# EAGLE library part LAIRDTECH_BTM411 (library LairdTechnologies)
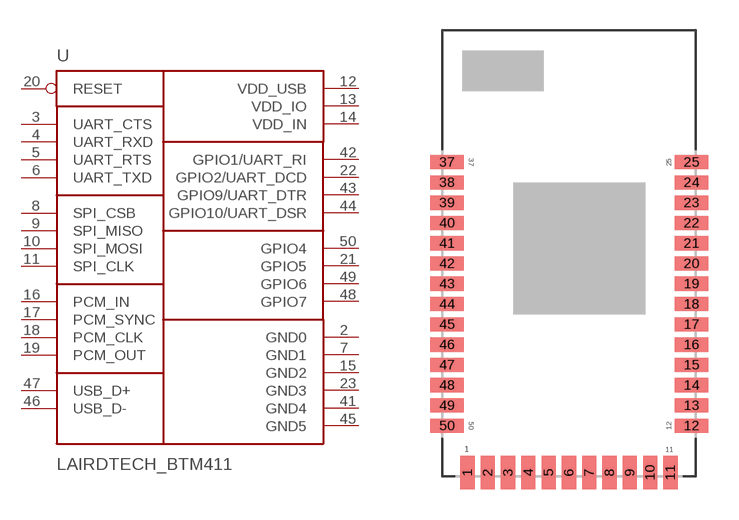
[diagram p0: symbol with the pads of LAIRDTECH_BTM411; footprint LAIRDTECH_BTM411]

Designator prefix -

## LAIRDTECH_BTM411  [LAIRDTECH_BTM411]
2  GND0
3  UART_CTS
4  UART_RXD
5  UART_RTS
6  UART_TXD
7  GND1
8  SPI_CSB
9  SPI_MISO
10  SPI_MOSI
11  SPI_CLK
12  VDD_USB
13  VDD_IO
14  VDD_IN
15  GND2
16  PCM_IN
17  PCM_SYNC
18  PCM_CLK
19  PCM_OUT
20  RESET
21  GPIO5
22  GPIO2/UART_DCD
23  GND3
41  GND4
42  GPIO1/UART_RI
43  GPIO9/UART_DTR
44  GPIO10/UART_DSR
45  GND5
46  USB_D-
47  USB_D+
48  GPIO7
49  GPIO6
50  GPIO4

## Footprint LAIRDTECH_BTM411 (pad centres in mm)
smd 0.7 x 1.65: 1 1.25,0.2; 2 2.25,0.2; 3 3.25,0.2; 4 4.25,0.2; 5 5.25,0.2; 6 6.25,0.2; 7 7.25,0.2; 8 8.25,0.2; 9 9.25,0.2; 10 10.25,0.2; 11 11.25,0.2
smd 1.65 x 0.7: 12 12.3,2.5; 13 12.3,3.5; 14 12.3,4.5; 15 12.3,5.5; 16 12.3,6.5; 17 12.3,7.5; 18 12.3,8.5; 19 12.3,9.5; 20 12.3,10.5; 21 12.3,11.5; 22 12.3,12.5; 23 12.3,13.5; 24 12.3,14.5; 25 12.3,15.5; 37 0.25,15.5; 38 0.25,14.5; 39 0.25,13.5; 40 0.25,12.5; 41 0.25,11.5; 42 0.25,10.5; 43 0.25,9.5; 44 0.25,8.5; 45 0.25,7.5; 46 0.25,6.5; 47 0.25,5.5; 48 0.25,4.5; 49 0.25,3.5; 50 0.25,2.5